# Altium integrated library Linear Technology Power Management System Supervisor, Monitor and Control.IntLib: 1611 symbols (part 9 of 100)
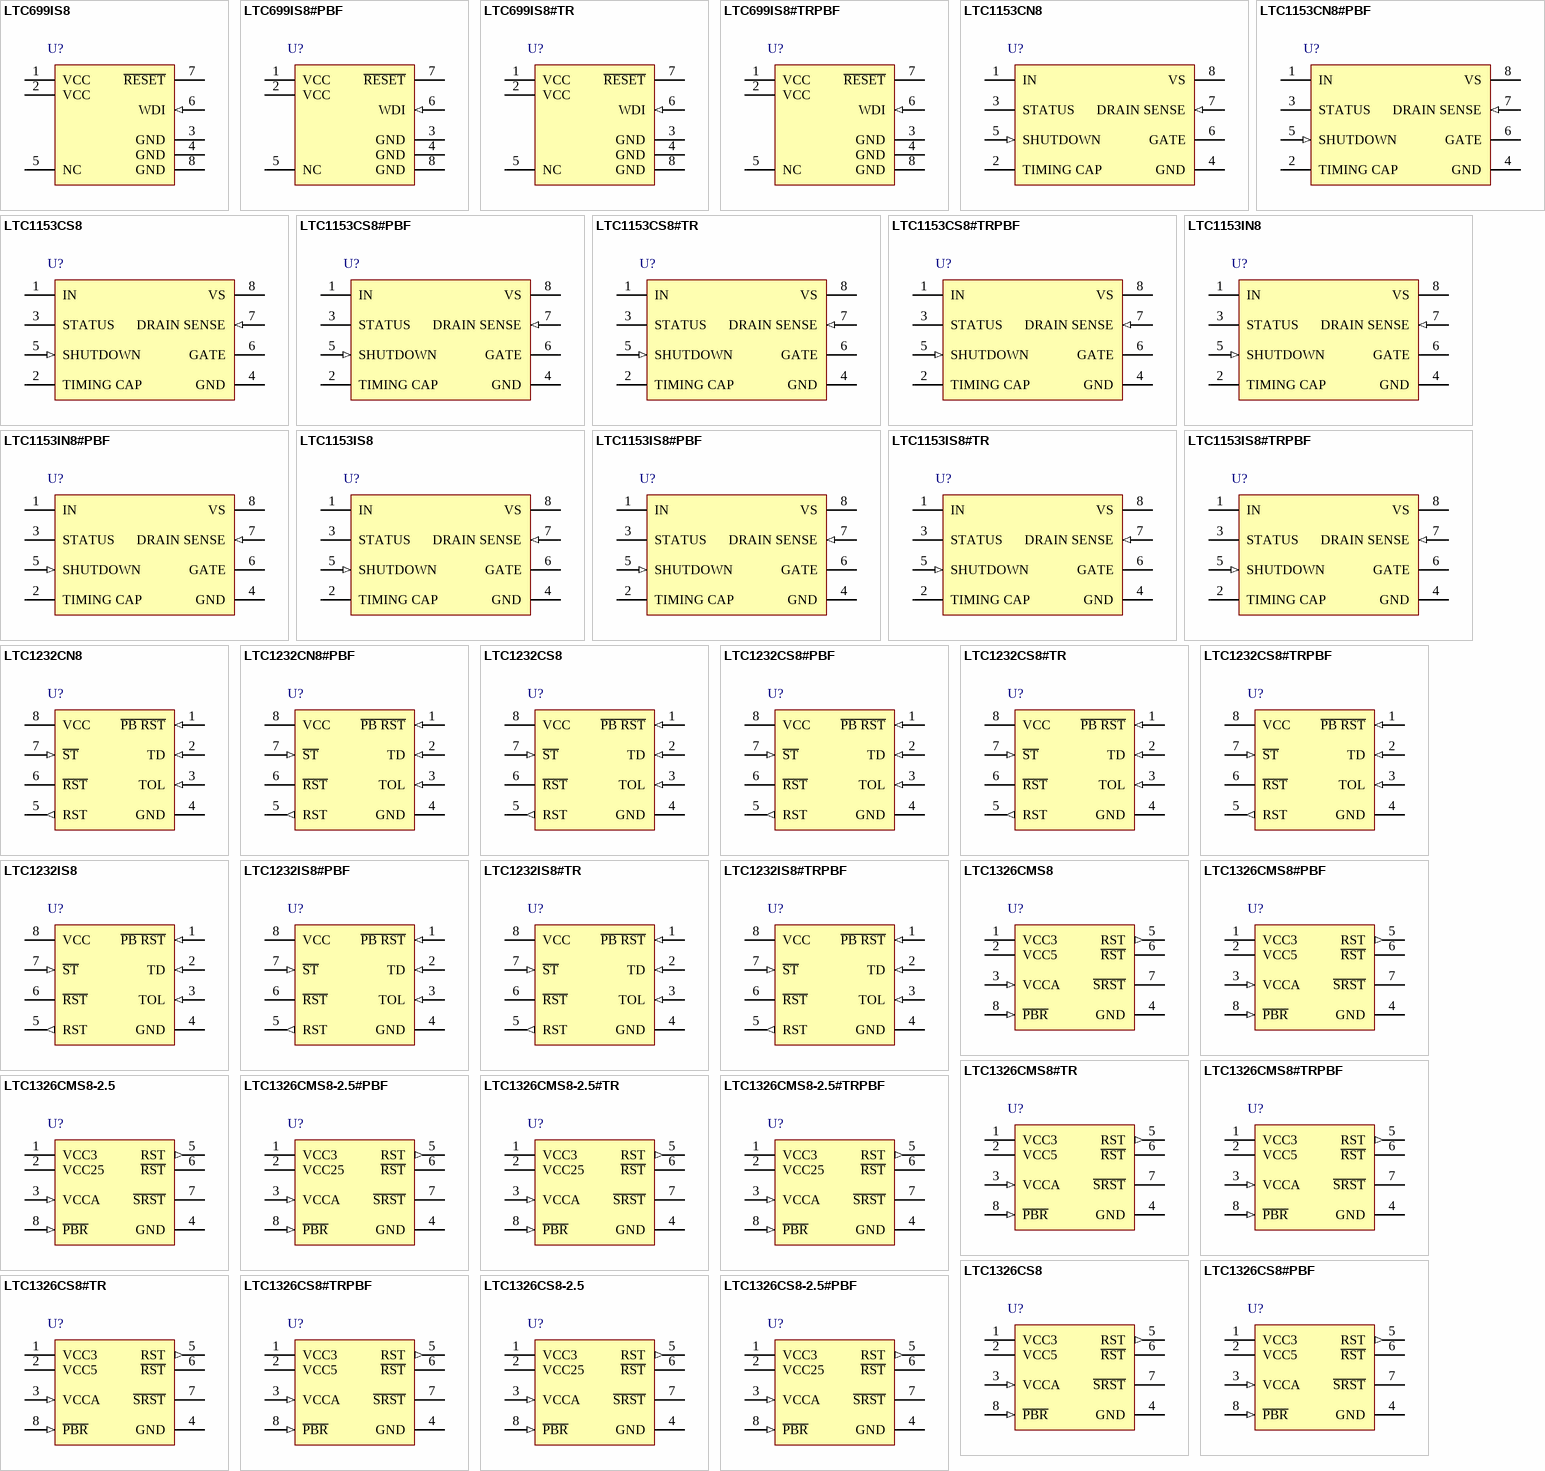
[diagram p53: symbols LTC699IS8 to LTC1326CS8-2.5#PBF]

## LTC1232IS8#TRPBF
designator U?
Push-Button Input, 8-pin SOIC (S8-8), -40 to 85 degC, Pb-Free, Tape and Reel; Manufacturer: Linear Technology; PartNumber: LTC1232IS8#TRPBF; Number of Supplies(#): 1; DatasheetVersion: Rev. A; PackageVersion: Rev. G, 03/2012; PackageReference: S8-8; PackageDescription: 8-Pin Plastic Small Outline (Narrow .150 Inch), Body 4.9 x 3.9 mm, Pitch 1.27 mm; Supplier 1: Digi-Key; Supplier Part Number 1: LTC1232IS8#TRPBF-ND; Supplier 2: Newark; Supplier Part Number 2: 55M9691; Packing: Tape and Reel; RoHS: TRUE; Mounting Technology: Surface Mount; ComponentLink1Description: Manufacturer URL; ComponentLink1URL: http://www.linear.com/; ComponentLink2Description: Datasheet; ComponentLink2URL: http://cds.linear.com/docs/en/datasheet/1232fas.pdf; ComponentLink3Description: Package Specification; ComponentLink3URL: http://cds.linear.com/docs/en/packaging/05081610_G_SO8.pdf
footprint LT-S8-8_N (SOIC, 8-Leads, Body 5x4mm, Pitch 1.27mm, IPC Medium Density)
footprint LT-S8-8_L (SOIC, 8-Leads, Body 5x4mm, Pitch 1.27mm, IPC High Density)
footprint LT-S8-8_M (SOIC, 8-Leads, Body 5x4mm, Pitch 1.27mm, IPC Low Density)
pins: 1 ~{PB RST} (in) "Logic Input to be Directly Connected to a Push- Button. The P\B\ \R\S\T\ input requires an active low signal which is debounced and timed for a minimum of 40ms. When this condition is satisfied, the reset pulse generator (See Datasheet)", 2 TD (in) "Time-Out Delay. TD is a three-level input to select three different time-out periods. The time-out period is set by the TD input to be 150ms with TD connected to GND, 600ms with TD left floating, and 1.2 seconds with TD (See Datasheet)", 3 TOL (in) "Input to Select 5% or 10% Variation on VCC. When TOL is connected to GND, the reset pulse generator forces the reset outputs to active states as VCC falls below 4.75V (4.62V typical). When TOL is connected to VCC, the reset (See Datasheet)", 4 GND (power) "Ground Pin.", 5 RST (out) "RST is an Active High Logic Output. It is the inverse of R\S\T\.", 6 ~{RST} (oc) "Open Drain Logic Output for uP Reset Control. The LTC1232 provides three ways to generate uP reset. First, when VCC falls below VCC trip point (4.75V with TOL = GND and 4.5V with TOL = VCC), R\S\T\ goes active low. After VCC (See Datasheet)", 7 ~{ST} (in) "Logic Input to Reset the Watchdog Timer. Driving S\T\ either high or low longer than the time-out period set by the TD input, forces the reset outputs to active states for a minimum of 250ms. The timer resets itself and (See Datasheet)", 8 VCC (power) "5V Supply Input. The VCC pin should be bypassed with a 0.1uF capacitor."

## LTC1326CMS8
designator U?
Micropower Precision Triple Supply Monitor, 8-pin SOP (MS8-8), 0 to 70 degC; Manufacturer: Linear Technology; PartNumber: LTC1326CMS8; Number of Supplies(#): 3; DatasheetVersion: Rev. C; PackageVersion: Rev. G, 03/2012; PackageReference: MS8-8; PackageDescription: 8-Pin Plastic MSOP, Body 3 x 3 mm, Pitch 0.65 mm; Supplier 1: Digi-Key; Supplier Part Number 1: LTC1326CMS8-ND; RoHS: FALSE; Mounting Technology: Surface Mount; ComponentLink1Description: Manufacturer URL; ComponentLink1URL: http://www.linear.com/; ComponentLink2Description: Datasheet; ComponentLink2URL: http://cds.linear.com/docs/en/datasheet/132625fc.pdf; ComponentLink3Description: Package Specification; ComponentLink3URL: http://cds.linear.com/docs/en/packaging/05081660_G_MS8.pdf
footprint LT-MS8-8_N (SOP, 8-Leads, Body 3.1x3.1mm, Pitch 0.65mm, IPC Medium Density)
footprint LT-MS8-8_L (SOP, 8-Leads, Body 3.1x3.1mm, Pitch 0.65mm, IPC High Density)
footprint LT-MS8-8_M (SOP, 8-Leads, Body 3.1x3.1mm, Pitch 0.65mm, IPC Low Density)
pins: 1 VCC3 (power), 2 VCC5 (power), 3 VCCA (in), 4 GND (power) "Ground.", 5 RST (out), 6 ~{RST} (oc), 7 ~{SRST} (oc), 8 ~{PBR} (in)

## LTC1326CMS8#PBF
designator U?
Micropower Precision Triple Supply Monitor, 8-pin SOP (MS8-8), 0 to 70 degC, Pb-Free; Manufacturer: Linear Technology; PartNumber: LTC1326CMS8#PBF; Number of Supplies(#): 3; DatasheetVersion: Rev. C; PackageVersion: Rev. G, 03/2012; PackageReference: MS8-8; PackageDescription: 8-Pin Plastic MSOP, Body 3 x 3 mm, Pitch 0.65 mm; Supplier 1: Digi-Key; Supplier Part Number 1: LTC1326CMS8#PBF-ND; Supplier 2: Farnell; Supplier Part Number 2: 2295382; Supplier 3: Newark; Supplier Part Number 3: 56M0292; RoHS: TRUE; Mounting Technology: Surface Mount; ComponentLink1Description: Manufacturer URL; ComponentLink1URL: http://www.linear.com/; ComponentLink2Description: Datasheet; ComponentLink2URL: http://cds.linear.com/docs/en/datasheet/132625fc.pdf; ComponentLink3Description: Package Specification; ComponentLink3URL: http://cds.linear.com/docs/en/packaging/05081660_G_MS8.pdf
footprint LT-MS8-8_N (SOP, 8-Leads, Body 3.1x3.1mm, Pitch 0.65mm, IPC Medium Density)
footprint LT-MS8-8_L (SOP, 8-Leads, Body 3.1x3.1mm, Pitch 0.65mm, IPC High Density)
footprint LT-MS8-8_M (SOP, 8-Leads, Body 3.1x3.1mm, Pitch 0.65mm, IPC Low Density)
pins: 1 VCC3 (power), 2 VCC5 (power), 3 VCCA (in), 4 GND (power) "Ground.", 5 RST (out), 6 ~{RST} (oc), 7 ~{SRST} (oc), 8 ~{PBR} (in)

## LTC1326CMS8#TR
designator U?
Micropower Precision Triple Supply Monitor, 8-pin SOP (MS8-8), 0 to 70 degC, Tape and Reel; Manufacturer: Linear Technology; PartNumber: LTC1326CMS8#TR; Number of Supplies(#): 3; DatasheetVersion: Rev. C; PackageVersion: Rev. G, 03/2012; PackageReference: MS8-8; PackageDescription: 8-Pin Plastic MSOP, Body 3 x 3 mm, Pitch 0.65 mm; Supplier 1: Digi-Key; Supplier Part Number 1: LTC1326CMS8#TR-ND; Packing: Tape and Reel; RoHS: FALSE; Mounting Technology: Surface Mount; ComponentLink1Description: Manufacturer URL; ComponentLink1URL: http://www.linear.com/; ComponentLink2Description: Datasheet; ComponentLink2URL: http://cds.linear.com/docs/en/datasheet/132625fc.pdf; ComponentLink3Description: Package Specification; ComponentLink3URL: http://cds.linear.com/docs/en/packaging/05081660_G_MS8.pdf
footprint LT-MS8-8_N (SOP, 8-Leads, Body 3.1x3.1mm, Pitch 0.65mm, IPC Medium Density)
footprint LT-MS8-8_L (SOP, 8-Leads, Body 3.1x3.1mm, Pitch 0.65mm, IPC High Density)
footprint LT-MS8-8_M (SOP, 8-Leads, Body 3.1x3.1mm, Pitch 0.65mm, IPC Low Density)
pins: 1 VCC3 (power), 2 VCC5 (power), 3 VCCA (in), 4 GND (power) "Ground.", 5 RST (out), 6 ~{RST} (oc), 7 ~{SRST} (oc), 8 ~{PBR} (in)

## LTC1326CMS8#TRPBF
designator U?
Micropower Precision Triple Supply Monitor, 8-pin SOP (MS8-8), 0 to 70 degC, Pb-Free, Tape and Reel; Manufacturer: Linear Technology; PartNumber: LTC1326CMS8#TRPBF; Number of Supplies(#): 3; DatasheetVersion: Rev. C; PackageVersion: Rev. G, 03/2012; PackageReference: MS8-8; PackageDescription: 8-Pin Plastic MSOP, Body 3 x 3 mm, Pitch 0.65 mm; Supplier 1: Digi-Key; Supplier Part Number 1: LTC1326CMS8#TRPBF-ND; Packing: Tape and Reel; RoHS: TRUE; Mounting Technology: Surface Mount; ComponentLink1Description: Manufacturer URL; ComponentLink1URL: http://www.linear.com/; ComponentLink2Description: Datasheet; ComponentLink2URL: http://cds.linear.com/docs/en/datasheet/132625fc.pdf; ComponentLink3Description: Package Specification; ComponentLink3URL: http://cds.linear.com/docs/en/packaging/05081660_G_MS8.pdf
footprint LT-MS8-8_N (SOP, 8-Leads, Body 3.1x3.1mm, Pitch 0.65mm, IPC Medium Density)
footprint LT-MS8-8_L (SOP, 8-Leads, Body 3.1x3.1mm, Pitch 0.65mm, IPC High Density)
footprint LT-MS8-8_M (SOP, 8-Leads, Body 3.1x3.1mm, Pitch 0.65mm, IPC Low Density)
pins: 1 VCC3 (power), 2 VCC5 (power), 3 VCCA (in), 4 GND (power) "Ground.", 5 RST (out), 6 ~{RST} (oc), 7 ~{SRST} (oc), 8 ~{PBR} (in)

## LTC1326CMS8-2.5
designator U?
Micropower Precision Triple Supply Monitor, 8-pin SOP (MS8-8), 0 to 70 degC; Manufacturer: Linear Technology; PartNumber: LTC1326CMS8-2.5; Number of Supplies(#): 3; DatasheetVersion: Rev. C; PackageVersion: Rev. G, 03/2012; PackageReference: MS8-8; PackageDescription: 8-Pin Plastic MSOP, Body 3 x 3 mm, Pitch 0.65 mm; Supplier 1: Digi-Key; Supplier Part Number 1: LTC1326CMS8-2.5-ND; Supplier 2: Newark; Supplier Part Number 2: 56M0288; RoHS: FALSE; Mounting Technology: Surface Mount; ComponentLink1Description: Manufacturer URL; ComponentLink1URL: http://www.linear.com/; ComponentLink2Description: Datasheet; ComponentLink2URL: http://cds.linear.com/docs/en/datasheet/132625fc.pdf; ComponentLink3Description: Package Specification; ComponentLink3URL: http://cds.linear.com/docs/en/packaging/05081660_G_MS8.pdf
footprint LT-MS8-8_N (SOP, 8-Leads, Body 3.1x3.1mm, Pitch 0.65mm, IPC Medium Density)
footprint LT-MS8-8_L (SOP, 8-Leads, Body 3.1x3.1mm, Pitch 0.65mm, IPC High Density)
footprint LT-MS8-8_M (SOP, 8-Leads, Body 3.1x3.1mm, Pitch 0.65mm, IPC Low Density)
pins: 1 VCC3 (power) "3.3V Sense Input and Power Supply Pin for the IC. Bypass to ground with >= 0.1uF ceramic capacitor.", 2 VCC25 (power), 3 VCCA (in) "1V Sense, High Impedance Input. Can be used as a logic input with a 1V threshold. If unused, it can be tied to either VCC3 or VCC25.", 4 GND (power) "Ground.", 5 RST (out) "Reset Logic Output. Active high CMOS logic output, drives high to VCC3, buffered complement of R\S\T\. An external pull-down on the R\S\T\ pin will drive this pin high.", 6 ~{RST} (oc) "Reset Logic Output. Active low, open-drain logic output with weak pull-up to VCC3. Can be pulled up greater than VCC3 when interfacing to 5V logic. Asserted when one or more of the supplies are below trip thresholds and held (See Datasheet)", 7 ~{SRST} (oc) "Soft Reset. Active low, open-drain logic output with weak pull-up to VCC3. Can be pulled up greater than VCC3 when interfacing to 5V logic. Asserted for 100us after P\B\R\ is held low for less than 2 seconds and released.", 8 ~{PBR} (in)

## LTC1326CMS8-2.5#PBF
designator U?
Micropower Precision Triple Supply Monitor, 8-pin SOP (MS8-8), 0 to 70 degC, Pb-Free; Manufacturer: Linear Technology; PartNumber: LTC1326CMS8-2.5#PBF; Number of Supplies(#): 3; DatasheetVersion: Rev. C; PackageVersion: Rev. G, 03/2012; PackageReference: MS8-8; PackageDescription: 8-Pin Plastic MSOP, Body 3 x 3 mm, Pitch 0.65 mm; Supplier 1: Digi-Key; Supplier Part Number 1: LTC1326CMS8-2.5#PBF-ND; Supplier 2: Farnell; Supplier Part Number 2: 1663609; Supplier 3: Newark; Supplier Part Number 3: 56M0289; RoHS: TRUE; Mounting Technology: Surface Mount; ComponentLink1Description: Manufacturer URL; ComponentLink1URL: http://www.linear.com/; ComponentLink2Description: Datasheet; ComponentLink2URL: http://cds.linear.com/docs/en/datasheet/132625fc.pdf; ComponentLink3Description: Package Specification; ComponentLink3URL: http://cds.linear.com/docs/en/packaging/05081660_G_MS8.pdf
footprint LT-MS8-8_N (SOP, 8-Leads, Body 3.1x3.1mm, Pitch 0.65mm, IPC Medium Density)
footprint LT-MS8-8_L (SOP, 8-Leads, Body 3.1x3.1mm, Pitch 0.65mm, IPC High Density)
footprint LT-MS8-8_M (SOP, 8-Leads, Body 3.1x3.1mm, Pitch 0.65mm, IPC Low Density)
pins: 1 VCC3 (power) "3.3V Sense Input and Power Supply Pin for the IC. Bypass to ground with >= 0.1uF ceramic capacitor.", 2 VCC25 (power), 3 VCCA (in) "1V Sense, High Impedance Input. Can be used as a logic input with a 1V threshold. If unused, it can be tied to either VCC3 or VCC25.", 4 GND (power) "Ground.", 5 RST (out) "Reset Logic Output. Active high CMOS logic output, drives high to VCC3, buffered complement of R\S\T\. An external pull-down on the R\S\T\ pin will drive this pin high.", 6 ~{RST} (oc) "Reset Logic Output. Active low, open-drain logic output with weak pull-up to VCC3. Can be pulled up greater than VCC3 when interfacing to 5V logic. Asserted when one or more of the supplies are below trip thresholds and held (See Datasheet)", 7 ~{SRST} (oc) "Soft Reset. Active low, open-drain logic output with weak pull-up to VCC3. Can be pulled up greater than VCC3 when interfacing to 5V logic. Asserted for 100us after P\B\R\ is held low for less than 2 seconds and released.", 8 ~{PBR} (in)

## LTC1326CMS8-2.5#TR
designator U?
Micropower Precision Triple Supply Monitor, 8-pin SOP (MS8-8), 0 to 70 degC, Tape and Reel; Manufacturer: Linear Technology; PartNumber: LTC1326CMS8-2.5#TR; Number of Supplies(#): 3; DatasheetVersion: Rev. C; PackageVersion: Rev. G, 03/2012; PackageReference: MS8-8; PackageDescription: 8-Pin Plastic MSOP, Body 3 x 3 mm, Pitch 0.65 mm; Supplier 1: Digi-Key; Supplier Part Number 1: LTC1326CMS8-2.5TR-ND; Packing: Tape and Reel; RoHS: FALSE; Mounting Technology: Surface Mount; ComponentLink1Description: Manufacturer URL; ComponentLink1URL: http://www.linear.com/; ComponentLink2Description: Datasheet; ComponentLink2URL: http://cds.linear.com/docs/en/datasheet/132625fc.pdf; ComponentLink3Description: Package Specification; ComponentLink3URL: http://cds.linear.com/docs/en/packaging/05081660_G_MS8.pdf
footprint LT-MS8-8_N (SOP, 8-Leads, Body 3.1x3.1mm, Pitch 0.65mm, IPC Medium Density)
footprint LT-MS8-8_L (SOP, 8-Leads, Body 3.1x3.1mm, Pitch 0.65mm, IPC High Density)
footprint LT-MS8-8_M (SOP, 8-Leads, Body 3.1x3.1mm, Pitch 0.65mm, IPC Low Density)
pins: 1 VCC3 (power) "3.3V Sense Input and Power Supply Pin for the IC. Bypass to ground with >= 0.1uF ceramic capacitor.", 2 VCC25 (power), 3 VCCA (in) "1V Sense, High Impedance Input. Can be used as a logic input with a 1V threshold. If unused, it can be tied to either VCC3 or VCC25.", 4 GND (power) "Ground.", 5 RST (out) "Reset Logic Output. Active high CMOS logic output, drives high to VCC3, buffered complement of R\S\T\. An external pull-down on the R\S\T\ pin will drive this pin high.", 6 ~{RST} (oc) "Reset Logic Output. Active low, open-drain logic output with weak pull-up to VCC3. Can be pulled up greater than VCC3 when interfacing to 5V logic. Asserted when one or more of the supplies are below trip thresholds and held (See Datasheet)", 7 ~{SRST} (oc) "Soft Reset. Active low, open-drain logic output with weak pull-up to VCC3. Can be pulled up greater than VCC3 when interfacing to 5V logic. Asserted for 100us after P\B\R\ is held low for less than 2 seconds and released.", 8 ~{PBR} (in)

## LTC1326CMS8-2.5#TRPBF
designator U?
Micropower Precision Triple Supply Monitor, 8-pin SOP (MS8-8), 0 to 70 degC, Pb-Free, Tape and Reel; Manufacturer: Linear Technology; PartNumber: LTC1326CMS8-2.5#TRPBF; Number of Supplies(#): 3; DatasheetVersion: Rev. C; PackageVersion: Rev. G, 03/2012; PackageReference: MS8-8; PackageDescription: 8-Pin Plastic MSOP, Body 3 x 3 mm, Pitch 0.65 mm; Supplier 1: Digi-Key; Supplier Part Number 1: LTC1326CMS8-2.5#TRPBF-ND; Supplier 2: Newark; Supplier Part Number 2: 56M0291; Packing: Tape and Reel; RoHS: TRUE; Mounting Technology: Surface Mount; ComponentLink1Description: Manufacturer URL; ComponentLink1URL: http://www.linear.com/; ComponentLink2Description: Datasheet; ComponentLink2URL: http://cds.linear.com/docs/en/datasheet/132625fc.pdf; ComponentLink3Description: Package Specification; ComponentLink3URL: http://cds.linear.com/docs/en/packaging/05081660_G_MS8.pdf
footprint LT-MS8-8_N (SOP, 8-Leads, Body 3.1x3.1mm, Pitch 0.65mm, IPC Medium Density)
footprint LT-MS8-8_L (SOP, 8-Leads, Body 3.1x3.1mm, Pitch 0.65mm, IPC High Density)
footprint LT-MS8-8_M (SOP, 8-Leads, Body 3.1x3.1mm, Pitch 0.65mm, IPC Low Density)
pins: 1 VCC3 (power) "3.3V Sense Input and Power Supply Pin for the IC. Bypass to ground with >= 0.1uF ceramic capacitor.", 2 VCC25 (power), 3 VCCA (in) "1V Sense, High Impedance Input. Can be used as a logic input with a 1V threshold. If unused, it can be tied to either VCC3 or VCC25.", 4 GND (power) "Ground.", 5 RST (out) "Reset Logic Output. Active high CMOS logic output, drives high to VCC3, buffered complement of R\S\T\. An external pull-down on the R\S\T\ pin will drive this pin high.", 6 ~{RST} (oc) "Reset Logic Output. Active low, open-drain logic output with weak pull-up to VCC3. Can be pulled up greater than VCC3 when interfacing to 5V logic. Asserted when one or more of the supplies are below trip thresholds and held (See Datasheet)", 7 ~{SRST} (oc) "Soft Reset. Active low, open-drain logic output with weak pull-up to VCC3. Can be pulled up greater than VCC3 when interfacing to 5V logic. Asserted for 100us after P\B\R\ is held low for less than 2 seconds and released.", 8 ~{PBR} (in)

## LTC1326CS8
designator U?
Micropower Precision Triple Supply Monitor, 8-pin SOIC (S8-8), 0 to 70 degC; Manufacturer: Linear Technology; PartNumber: LTC1326CS8; Number of Supplies(#): 3; DatasheetVersion: Rev. C; PackageVersion: Rev. G, 03/2012; PackageReference: S8-8; PackageDescription: 8-Pin Plastic Small Outline (Narrow .150 Inch), Body 4.9 x 3.9 mm, Pitch 1.27 mm; Supplier 1: Digi-Key; Supplier Part Number 1: LTC1326CS8-ND; Supplier 2: Newark; Supplier Part Number 2: 56M0295; RoHS: FALSE; Mounting Technology: Surface Mount; ComponentLink1Description: Manufacturer URL; ComponentLink1URL: http://www.linear.com/; ComponentLink2Description: Datasheet; ComponentLink2URL: http://cds.linear.com/docs/en/datasheet/132625fc.pdf; ComponentLink3Description: Package Specification; ComponentLink3URL: http://cds.linear.com/docs/en/packaging/05081610_G_SO8.pdf
footprint LT-S8-8_N (SOIC, 8-Leads, Body 5x4mm, Pitch 1.27mm, IPC Medium Density)
footprint LT-S8-8_L (SOIC, 8-Leads, Body 5x4mm, Pitch 1.27mm, IPC High Density)
footprint LT-S8-8_M (SOIC, 8-Leads, Body 5x4mm, Pitch 1.27mm, IPC Low Density)
pins: 1 VCC3 (power), 2 VCC5 (power), 3 VCCA (in), 4 GND (power) "Ground.", 5 RST (out), 6 ~{RST} (oc), 7 ~{SRST} (oc), 8 ~{PBR} (in)

## LTC1326CS8#PBF
designator U?
Micropower Precision Triple Supply Monitor, 8-pin SOIC (S8-8), 0 to 70 degC, Pb-Free; Manufacturer: Linear Technology; PartNumber: LTC1326CS8#PBF; Number of Supplies(#): 3; DatasheetVersion: Rev. C; PackageVersion: Rev. G, 03/2012; PackageReference: S8-8; PackageDescription: 8-Pin Plastic Small Outline (Narrow .150 Inch), Body 4.9 x 3.9 mm, Pitch 1.27 mm; Supplier 1: Digi-Key; Supplier Part Number 1: LTC1326CS8#PBF-ND; Supplier 2: Farnell; Supplier Part Number 2: 1273648; Supplier 3: Newark; Supplier Part Number 3: 56M0300; RoHS: TRUE; Mounting Technology: Surface Mount; ComponentLink1Description: Manufacturer URL; ComponentLink1URL: http://www.linear.com/; ComponentLink2Description: Datasheet; ComponentLink2URL: http://cds.linear.com/docs/en/datasheet/132625fc.pdf; ComponentLink3Description: Package Specification; ComponentLink3URL: http://cds.linear.com/docs/en/packaging/05081610_G_SO8.pdf
footprint LT-S8-8_N (SOIC, 8-Leads, Body 5x4mm, Pitch 1.27mm, IPC Medium Density)
footprint LT-S8-8_L (SOIC, 8-Leads, Body 5x4mm, Pitch 1.27mm, IPC High Density)
footprint LT-S8-8_M (SOIC, 8-Leads, Body 5x4mm, Pitch 1.27mm, IPC Low Density)
pins: 1 VCC3 (power), 2 VCC5 (power), 3 VCCA (in), 4 GND (power) "Ground.", 5 RST (out), 6 ~{RST} (oc), 7 ~{SRST} (oc), 8 ~{PBR} (in)

## LTC1326CS8#TR
designator U?
Micropower Precision Triple Supply Monitor, 8-pin SOIC (S8-8), 0 to 70 degC, Tape and Reel; Manufacturer: Linear Technology; PartNumber: LTC1326CS8#TR; Number of Supplies(#): 3; DatasheetVersion: Rev. C; PackageVersion: Rev. G, 03/2012; PackageReference: S8-8; PackageDescription: 8-Pin Plastic Small Outline (Narrow .150 Inch), Body 4.9 x 3.9 mm, Pitch 1.27 mm; Supplier 1: Digi-Key; Supplier Part Number 1: LTC1326CS8#TR-ND; Packing: Tape and Reel; RoHS: FALSE; Mounting Technology: Surface Mount; ComponentLink1Description: Manufacturer URL; ComponentLink1URL: http://www.linear.com/; ComponentLink2Description: Datasheet; ComponentLink2URL: http://cds.linear.com/docs/en/datasheet/132625fc.pdf; ComponentLink3Description: Package Specification; ComponentLink3URL: http://cds.linear.com/docs/en/packaging/05081610_G_SO8.pdf
footprint LT-S8-8_N (SOIC, 8-Leads, Body 5x4mm, Pitch 1.27mm, IPC Medium Density)
footprint LT-S8-8_L (SOIC, 8-Leads, Body 5x4mm, Pitch 1.27mm, IPC High Density)
footprint LT-S8-8_M (SOIC, 8-Leads, Body 5x4mm, Pitch 1.27mm, IPC Low Density)
pins: 1 VCC3 (power), 2 VCC5 (power), 3 VCCA (in), 4 GND (power) "Ground.", 5 RST (out), 6 ~{RST} (oc), 7 ~{SRST} (oc), 8 ~{PBR} (in)

## LTC1326CS8#TRPBF
designator U?
Micropower Precision Triple Supply Monitor, 8-pin SOIC (S8-8), 0 to 70 degC, Pb-Free, Tape and Reel; Manufacturer: Linear Technology; PartNumber: LTC1326CS8#TRPBF; Number of Supplies(#): 3; DatasheetVersion: Rev. C; PackageVersion: Rev. G, 03/2012; PackageReference: S8-8; PackageDescription: 8-Pin Plastic Small Outline (Narrow .150 Inch), Body 4.9 x 3.9 mm, Pitch 1.27 mm; Supplier 1: Digi-Key; Supplier Part Number 1: LTC1326CS8#TRPBF-ND; Supplier 2: Newark; Supplier Part Number 2: 56M0302; Packing: Tape and Reel; RoHS: TRUE; Mounting Technology: Surface Mount; ComponentLink1Description: Manufacturer URL; ComponentLink1URL: http://www.linear.com/; ComponentLink2Description: Datasheet; ComponentLink2URL: http://cds.linear.com/docs/en/datasheet/132625fc.pdf; ComponentLink3Description: Package Specification; ComponentLink3URL: http://cds.linear.com/docs/en/packaging/05081610_G_SO8.pdf
footprint LT-S8-8_N (SOIC, 8-Leads, Body 5x4mm, Pitch 1.27mm, IPC Medium Density)
footprint LT-S8-8_L (SOIC, 8-Leads, Body 5x4mm, Pitch 1.27mm, IPC High Density)
footprint LT-S8-8_M (SOIC, 8-Leads, Body 5x4mm, Pitch 1.27mm, IPC Low Density)
pins: 1 VCC3 (power), 2 VCC5 (power), 3 VCCA (in), 4 GND (power) "Ground.", 5 RST (out), 6 ~{RST} (oc), 7 ~{SRST} (oc), 8 ~{PBR} (in)

## LTC1326CS8-2.5
designator U?
Micropower Precision Triple Supply Monitor, 8-pin SOIC (S8-8), 0 to 70 degC; Manufacturer: Linear Technology; PartNumber: LTC1326CS8-2.5; Number of Supplies(#): 3; DatasheetVersion: Rev. C; PackageVersion: Rev. G, 03/2012; PackageReference: S8-8; PackageDescription: 8-Pin Plastic Small Outline (Narrow .150 Inch), Body 4.9 x 3.9 mm, Pitch 1.27 mm; Supplier 1: Digi-Key; Supplier Part Number 1: LTC1326CS8-2.5-ND; RoHS: FALSE; Mounting Technology: Surface Mount; ComponentLink1Description: Manufacturer URL; ComponentLink1URL: http://www.linear.com/; ComponentLink2Description: Datasheet; ComponentLink2URL: http://cds.linear.com/docs/en/datasheet/132625fc.pdf; ComponentLink3Description: Package Specification; ComponentLink3URL: http://cds.linear.com/docs/en/packaging/05081610_G_SO8.pdf
footprint LT-S8-8_N (SOIC, 8-Leads, Body 5x4mm, Pitch 1.27mm, IPC Medium Density)
footprint LT-S8-8_L (SOIC, 8-Leads, Body 5x4mm, Pitch 1.27mm, IPC High Density)
footprint LT-S8-8_M (SOIC, 8-Leads, Body 5x4mm, Pitch 1.27mm, IPC Low Density)
pins: 1 VCC3 (power) "3.3V Sense Input and Power Supply Pin for the IC. Bypass to ground with >= 0.1uF ceramic capacitor.", 2 VCC25 (power), 3 VCCA (in) "1V Sense, High Impedance Input. Can be used as a logic input with a 1V threshold. If unused, it can be tied to either VCC3 or VCC25.", 4 GND (power) "Ground.", 5 RST (out) "Reset Logic Output. Active high CMOS logic output, drives high to VCC3, buffered complement of R\S\T\. An external pull-down on the R\S\T\ pin will drive this pin high.", 6 ~{RST} (oc) "Reset Logic Output. Active low, open-drain logic output with weak pull-up to VCC3. Can be pulled up greater than VCC3 when interfacing to 5V logic. Asserted when one or more of the supplies are below trip thresholds and held (See Datasheet)", 7 ~{SRST} (oc) "Soft Reset. Active low, open-drain logic output with weak pull-up to VCC3. Can be pulled up greater than VCC3 when interfacing to 5V logic. Asserted for 100us after P\B\R\ is held low for less than 2 seconds and released.", 8 ~{PBR} (in)

## LTC1326CS8-2.5#PBF
designator U?
Micropower Precision Triple Supply Monitor, 8-pin SOIC (S8-8), 0 to 70 degC, Pb-Free; Manufacturer: Linear Technology; PartNumber: LTC1326CS8-2.5#PBF; Number of Supplies(#): 3; DatasheetVersion: Rev. C; PackageVersion: Rev. G, 03/2012; PackageReference: S8-8; PackageDescription: 8-Pin Plastic Small Outline (Narrow .150 Inch), Body 4.9 x 3.9 mm, Pitch 1.27 mm; Supplier 1: Digi-Key; Supplier Part Number 1: LTC1326CS8-2.5#PBF-ND; Supplier 2: Farnell; Supplier Part Number 2: 1273649; Supplier 3: Newark; Supplier Part Number 3: 56M0297; RoHS: TRUE; Mounting Technology: Surface Mount; ComponentLink1Description: Manufacturer URL; ComponentLink1URL: http://www.linear.com/; ComponentLink2Description: Datasheet; ComponentLink2URL: http://cds.linear.com/docs/en/datasheet/132625fc.pdf; ComponentLink3Description: Package Specification; ComponentLink3URL: http://cds.linear.com/docs/en/packaging/05081610_G_SO8.pdf
footprint LT-S8-8_N (SOIC, 8-Leads, Body 5x4mm, Pitch 1.27mm, IPC Medium Density)
footprint LT-S8-8_L (SOIC, 8-Leads, Body 5x4mm, Pitch 1.27mm, IPC High Density)
footprint LT-S8-8_M (SOIC, 8-Leads, Body 5x4mm, Pitch 1.27mm, IPC Low Density)
pins: 1 VCC3 (power) "3.3V Sense Input and Power Supply Pin for the IC. Bypass to ground with >= 0.1uF ceramic capacitor.", 2 VCC25 (power), 3 VCCA (in) "1V Sense, High Impedance Input. Can be used as a logic input with a 1V threshold. If unused, it can be tied to either VCC3 or VCC25.", 4 GND (power) "Ground.", 5 RST (out) "Reset Logic Output. Active high CMOS logic output, drives high to VCC3, buffered complement of R\S\T\. An external pull-down on the R\S\T\ pin will drive this pin high.", 6 ~{RST} (oc) "Reset Logic Output. Active low, open-drain logic output with weak pull-up to VCC3. Can be pulled up greater than VCC3 when interfacing to 5V logic. Asserted when one or more of the supplies are below trip thresholds and held (See Datasheet)", 7 ~{SRST} (oc) "Soft Reset. Active low, open-drain logic output with weak pull-up to VCC3. Can be pulled up greater than VCC3 when interfacing to 5V logic. Asserted for 100us after P\B\R\ is held low for less than 2 seconds and released.", 8 ~{PBR} (in)

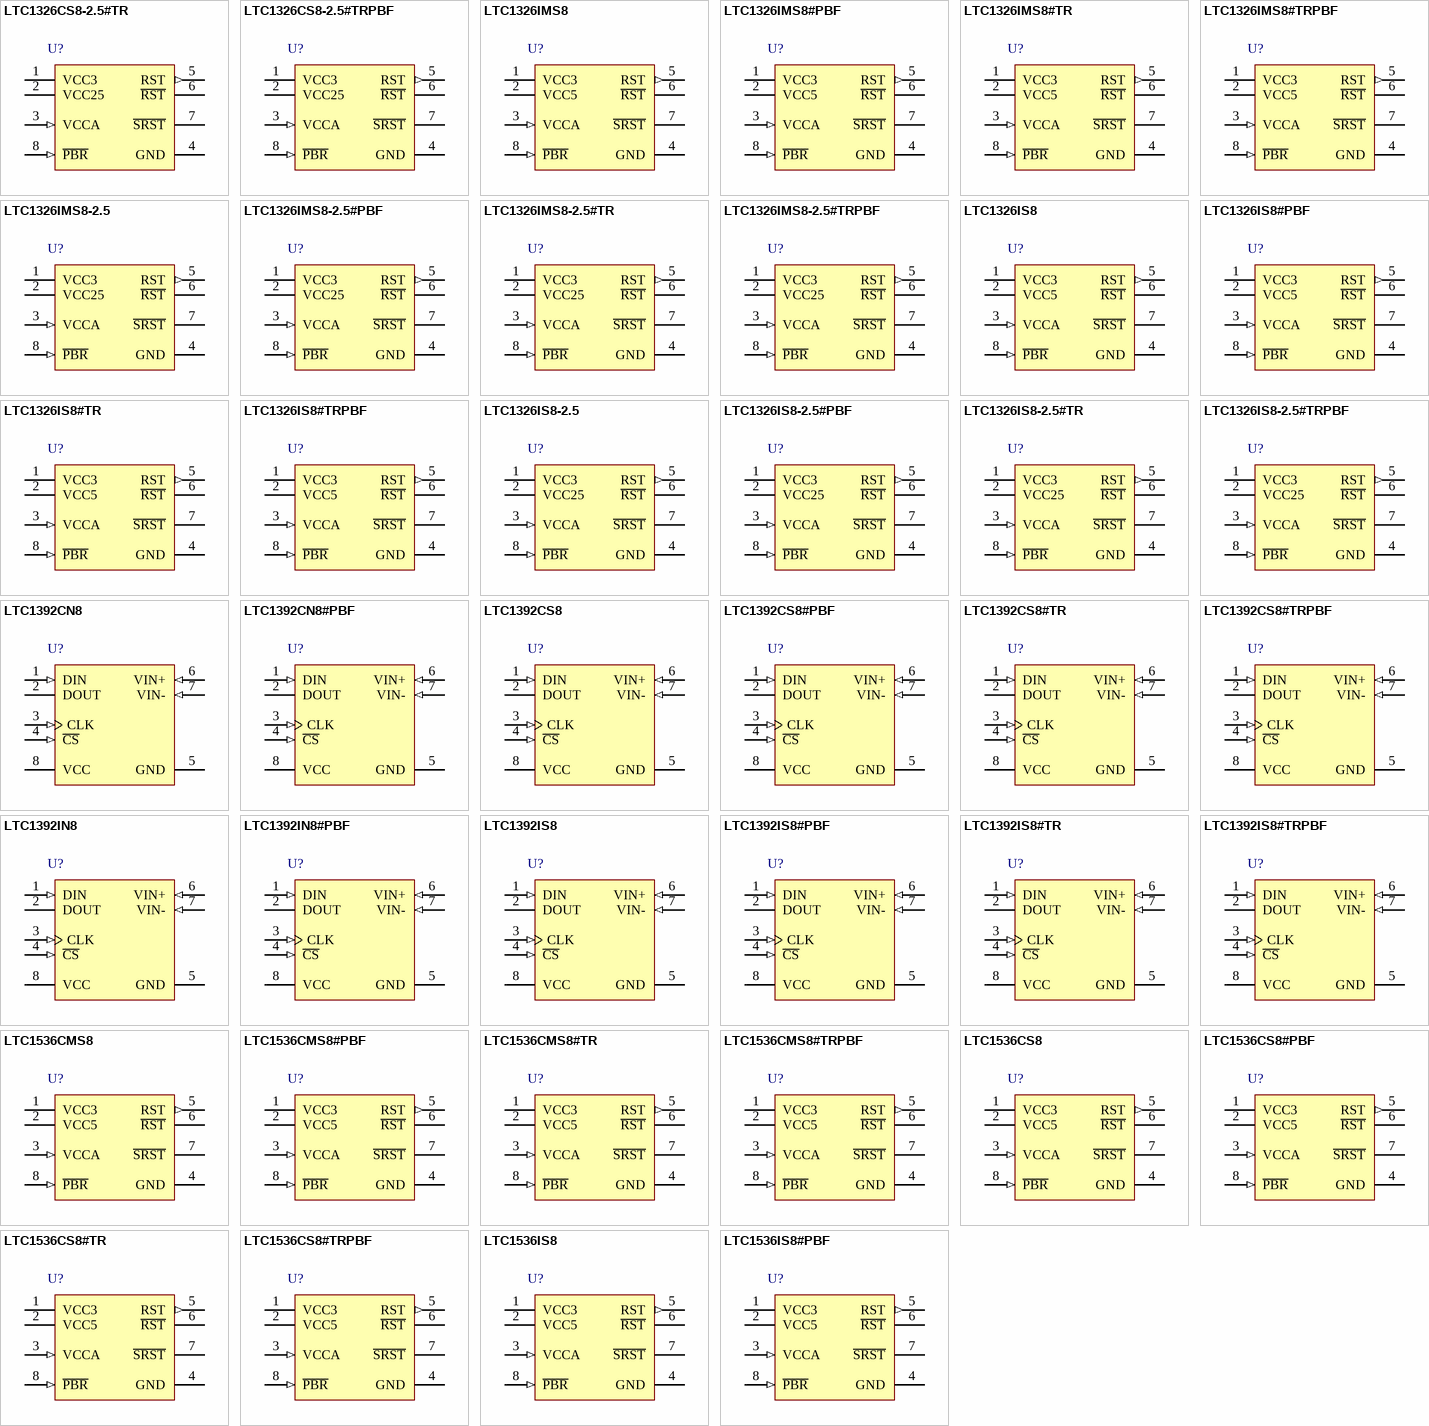
[diagram p5: symbols LTC1326CS8-2.5#TR to LTC1536IS8#PBF]

## LTC1326CS8-2.5#TR
designator U?
Micropower Precision Triple Supply Monitor, 8-pin SOIC (S8-8), 0 to 70 degC, Tape and Reel; Manufacturer: Linear Technology; PartNumber: LTC1326CS8-2.5#TR; Number of Supplies(#): 3; DatasheetVersion: Rev. C; PackageVersion: Rev. G, 03/2012; PackageReference: S8-8; PackageDescription: 8-Pin Plastic Small Outline (Narrow .150 Inch), Body 4.9 x 3.9 mm, Pitch 1.27 mm; Supplier 1: Digi-Key; Supplier Part Number 1: LTC1326CS8-2.5#TR-ND; Packing: Tape and Reel; RoHS: FALSE; Mounting Technology: Surface Mount; ComponentLink1Description: Manufacturer URL; ComponentLink1URL: http://www.linear.com/; ComponentLink2Description: Datasheet; ComponentLink2URL: http://cds.linear.com/docs/en/datasheet/132625fc.pdf; ComponentLink3Description: Package Specification; ComponentLink3URL: http://cds.linear.com/docs/en/packaging/05081610_G_SO8.pdf
footprint LT-S8-8_N (SOIC, 8-Leads, Body 5x4mm, Pitch 1.27mm, IPC Medium Density)
footprint LT-S8-8_L (SOIC, 8-Leads, Body 5x4mm, Pitch 1.27mm, IPC High Density)
footprint LT-S8-8_M (SOIC, 8-Leads, Body 5x4mm, Pitch 1.27mm, IPC Low Density)
pins: 1 VCC3 (power) "3.3V Sense Input and Power Supply Pin for the IC. Bypass to ground with >= 0.1uF ceramic capacitor.", 2 VCC25 (power), 3 VCCA (in) "1V Sense, High Impedance Input. Can be used as a logic input with a 1V threshold. If unused, it can be tied to either VCC3 or VCC25.", 4 GND (power) "Ground.", 5 RST (out) "Reset Logic Output. Active high CMOS logic output, drives high to VCC3, buffered complement of R\S\T\. An external pull-down on the R\S\T\ pin will drive this pin high.", 6 ~{RST} (oc) "Reset Logic Output. Active low, open-drain logic output with weak pull-up to VCC3. Can be pulled up greater than VCC3 when interfacing to 5V logic. Asserted when one or more of the supplies are below trip thresholds and held (See Datasheet)", 7 ~{SRST} (oc) "Soft Reset. Active low, open-drain logic output with weak pull-up to VCC3. Can be pulled up greater than VCC3 when interfacing to 5V logic. Asserted for 100us after P\B\R\ is held low for less than 2 seconds and released.", 8 ~{PBR} (in)

## LTC1326CS8-2.5#TRPBF
designator U?
Micropower Precision Triple Supply Monitor, 8-pin SOIC (S8-8), 0 to 70 degC, Pb-Free, Tape and Reel; Manufacturer: Linear Technology; PartNumber: LTC1326CS8-2.5#TRPBF; Number of Supplies(#): 3; DatasheetVersion: Rev. C; PackageVersion: Rev. G, 03/2012; PackageReference: S8-8; PackageDescription: 8-Pin Plastic Small Outline (Narrow .150 Inch), Body 4.9 x 3.9 mm, Pitch 1.27 mm; Supplier 1: Digi-Key; Supplier Part Number 1: LTC1326CS8-2.5#TRPBF-ND; Supplier 2: Newark; Supplier Part Number 2: 56M0299; Packing: Tape and Reel; RoHS: TRUE; Mounting Technology: Surface Mount; ComponentLink1Description: Manufacturer URL; ComponentLink1URL: http://www.linear.com/; ComponentLink2Description: Datasheet; ComponentLink2URL: http://cds.linear.com/docs/en/datasheet/132625fc.pdf; ComponentLink3Description: Package Specification; ComponentLink3URL: http://cds.linear.com/docs/en/packaging/05081610_G_SO8.pdf
footprint LT-S8-8_N (SOIC, 8-Leads, Body 5x4mm, Pitch 1.27mm, IPC Medium Density)
footprint LT-S8-8_L (SOIC, 8-Leads, Body 5x4mm, Pitch 1.27mm, IPC High Density)
footprint LT-S8-8_M (SOIC, 8-Leads, Body 5x4mm, Pitch 1.27mm, IPC Low Density)
pins: 1 VCC3 (power) "3.3V Sense Input and Power Supply Pin for the IC. Bypass to ground with >= 0.1uF ceramic capacitor.", 2 VCC25 (power), 3 VCCA (in) "1V Sense, High Impedance Input. Can be used as a logic input with a 1V threshold. If unused, it can be tied to either VCC3 or VCC25.", 4 GND (power) "Ground.", 5 RST (out) "Reset Logic Output. Active high CMOS logic output, drives high to VCC3, buffered complement of R\S\T\. An external pull-down on the R\S\T\ pin will drive this pin high.", 6 ~{RST} (oc) "Reset Logic Output. Active low, open-drain logic output with weak pull-up to VCC3. Can be pulled up greater than VCC3 when interfacing to 5V logic. Asserted when one or more of the supplies are below trip thresholds and held (See Datasheet)", 7 ~{SRST} (oc) "Soft Reset. Active low, open-drain logic output with weak pull-up to VCC3. Can be pulled up greater than VCC3 when interfacing to 5V logic. Asserted for 100us after P\B\R\ is held low for less than 2 seconds and released.", 8 ~{PBR} (in)

## LTC1326IMS8
designator U?
Micropower Precision Triple Supply Monitor, 8-pin SOP (MS8-8), -40 to 85 degC; Manufacturer: Linear Technology; PartNumber: LTC1326IMS8; Number of Supplies(#): 3; DatasheetVersion: Rev. C; PackageVersion: Rev. G, 03/2012; PackageReference: MS8-8; PackageDescription: 8-Pin Plastic MSOP, Body 3 x 3 mm, Pitch 0.65 mm; Supplier 1: Digi-Key; Supplier Part Number 1: LTC1326IMS8-ND; Supplier 2: Newark; Supplier Part Number 2: 56M0303; RoHS: FALSE; Mounting Technology: Surface Mount; ComponentLink1Description: Manufacturer URL; ComponentLink1URL: http://www.linear.com/; ComponentLink2Description: Datasheet; ComponentLink2URL: http://cds.linear.com/docs/en/datasheet/132625fc.pdf; ComponentLink3Description: Package Specification; ComponentLink3URL: http://cds.linear.com/docs/en/packaging/05081660_G_MS8.pdf
footprint LT-MS8-8_N (SOP, 8-Leads, Body 3.1x3.1mm, Pitch 0.65mm, IPC Medium Density)
footprint LT-MS8-8_L (SOP, 8-Leads, Body 3.1x3.1mm, Pitch 0.65mm, IPC High Density)
footprint LT-MS8-8_M (SOP, 8-Leads, Body 3.1x3.1mm, Pitch 0.65mm, IPC Low Density)
pins: 1 VCC3 (power), 2 VCC5 (power), 3 VCCA (in), 4 GND (power) "Ground.", 5 RST (out), 6 ~{RST} (oc), 7 ~{SRST} (oc), 8 ~{PBR} (in)

## LTC1326IMS8#PBF
designator U?
Micropower Precision Triple Supply Monitor, 8-pin SOP (MS8-8), -40 to 85 degC, Pb-Free; Manufacturer: Linear Technology; PartNumber: LTC1326IMS8#PBF; Number of Supplies(#): 3; DatasheetVersion: Rev. C; PackageVersion: Rev. G, 03/2012; PackageReference: MS8-8; PackageDescription: 8-Pin Plastic MSOP, Body 3 x 3 mm, Pitch 0.65 mm; Supplier 1: Digi-Key; Supplier Part Number 1: LTC1326IMS8#PBF-ND; Supplier 2: Farnell; Supplier Part Number 2: 2295383; RoHS: TRUE; Mounting Technology: Surface Mount; ComponentLink1Description: Manufacturer URL; ComponentLink1URL: http://www.linear.com/; ComponentLink2Description: Datasheet; ComponentLink2URL: http://cds.linear.com/docs/en/datasheet/132625fc.pdf; ComponentLink3Description: Package Specification; ComponentLink3URL: http://cds.linear.com/docs/en/packaging/05081660_G_MS8.pdf
footprint LT-MS8-8_N (SOP, 8-Leads, Body 3.1x3.1mm, Pitch 0.65mm, IPC Medium Density)
footprint LT-MS8-8_L (SOP, 8-Leads, Body 3.1x3.1mm, Pitch 0.65mm, IPC High Density)
footprint LT-MS8-8_M (SOP, 8-Leads, Body 3.1x3.1mm, Pitch 0.65mm, IPC Low Density)
pins: 1 VCC3 (power), 2 VCC5 (power), 3 VCCA (in), 4 GND (power) "Ground.", 5 RST (out), 6 ~{RST} (oc), 7 ~{SRST} (oc), 8 ~{PBR} (in)

## LTC1326IMS8#TR
designator U?
Micropower Precision Triple Supply Monitor, 8-pin SOP (MS8-8), -40 to 85 degC, Tape and Reel; Manufacturer: Linear Technology; PartNumber: LTC1326IMS8#TR; Number of Supplies(#): 3; DatasheetVersion: Rev. C; PackageVersion: Rev. G, 03/2012; PackageReference: MS8-8; PackageDescription: 8-Pin Plastic MSOP, Body 3 x 3 mm, Pitch 0.65 mm; Supplier 1: Digi-Key; Supplier Part Number 1: LTC1326IMS8#TR-ND; Packing: Tape and Reel; RoHS: FALSE; Mounting Technology: Surface Mount; ComponentLink1Description: Manufacturer URL; ComponentLink1URL: http://www.linear.com/; ComponentLink2Description: Datasheet; ComponentLink2URL: http://cds.linear.com/docs/en/datasheet/132625fc.pdf; ComponentLink3Description: Package Specification; ComponentLink3URL: http://cds.linear.com/docs/en/packaging/05081660_G_MS8.pdf
footprint LT-MS8-8_N (SOP, 8-Leads, Body 3.1x3.1mm, Pitch 0.65mm, IPC Medium Density)
footprint LT-MS8-8_L (SOP, 8-Leads, Body 3.1x3.1mm, Pitch 0.65mm, IPC High Density)
footprint LT-MS8-8_M (SOP, 8-Leads, Body 3.1x3.1mm, Pitch 0.65mm, IPC Low Density)
pins: 1 VCC3 (power), 2 VCC5 (power), 3 VCCA (in), 4 GND (power) "Ground.", 5 RST (out), 6 ~{RST} (oc), 7 ~{SRST} (oc), 8 ~{PBR} (in)

## LTC1326IMS8#TRPBF
designator U?
Micropower Precision Triple Supply Monitor, 8-pin SOP (MS8-8), -40 to 85 degC, Pb-Free, Tape and Reel; Manufacturer: Linear Technology; PartNumber: LTC1326IMS8#TRPBF; Number of Supplies(#): 3; DatasheetVersion: Rev. C; PackageVersion: Rev. G, 03/2012; PackageReference: MS8-8; PackageDescription: 8-Pin Plastic MSOP, Body 3 x 3 mm, Pitch 0.65 mm; Supplier 1: Digi-Key; Supplier Part Number 1: LTC1326IMS8#TRPBF-ND; Supplier 2: Newark; Supplier Part Number 2: 56M0310; Packing: Tape and Reel; RoHS: TRUE; Mounting Technology: Surface Mount; ComponentLink1Description: Manufacturer URL; ComponentLink1URL: http://www.linear.com/; ComponentLink2Description: Datasheet; ComponentLink2URL: http://cds.linear.com/docs/en/datasheet/132625fc.pdf; ComponentLink3Description: Package Specification; ComponentLink3URL: http://cds.linear.com/docs/en/packaging/05081660_G_MS8.pdf
footprint LT-MS8-8_N (SOP, 8-Leads, Body 3.1x3.1mm, Pitch 0.65mm, IPC Medium Density)
footprint LT-MS8-8_L (SOP, 8-Leads, Body 3.1x3.1mm, Pitch 0.65mm, IPC High Density)
footprint LT-MS8-8_M (SOP, 8-Leads, Body 3.1x3.1mm, Pitch 0.65mm, IPC Low Density)
pins: 1 VCC3 (power), 2 VCC5 (power), 3 VCCA (in), 4 GND (power) "Ground.", 5 RST (out), 6 ~{RST} (oc), 7 ~{SRST} (oc), 8 ~{PBR} (in)

## LTC1326IMS8-2.5
designator U?
Micropower Precision Triple Supply Monitor, 8-pin SOP (MS8-8), -40 to 85 degC; Manufacturer: Linear Technology; PartNumber: LTC1326IMS8-2.5; Number of Supplies(#): 3; DatasheetVersion: Rev. C; PackageVersion: Rev. G, 03/2012; PackageReference: MS8-8; PackageDescription: 8-Pin Plastic MSOP, Body 3 x 3 mm, Pitch 0.65 mm; Supplier 1: Digi-Key; Supplier Part Number 1: LTC1326IMS8-2.5-ND; Supplier 2: Newark; Supplier Part Number 2: 56M0304; RoHS: FALSE; Mounting Technology: Surface Mount; ComponentLink1Description: Manufacturer URL; ComponentLink1URL: http://www.linear.com/; ComponentLink2Description: Datasheet; ComponentLink2URL: http://cds.linear.com/docs/en/datasheet/132625fc.pdf; ComponentLink3Description: Package Specification; ComponentLink3URL: http://cds.linear.com/docs/en/packaging/05081660_G_MS8.pdf
footprint LT-MS8-8_N (SOP, 8-Leads, Body 3.1x3.1mm, Pitch 0.65mm, IPC Medium Density)
footprint LT-MS8-8_L (SOP, 8-Leads, Body 3.1x3.1mm, Pitch 0.65mm, IPC High Density)
footprint LT-MS8-8_M (SOP, 8-Leads, Body 3.1x3.1mm, Pitch 0.65mm, IPC Low Density)
pins: 1 VCC3 (power) "3.3V Sense Input and Power Supply Pin for the IC. Bypass to ground with >= 0.1uF ceramic capacitor.", 2 VCC25 (power), 3 VCCA (in) "1V Sense, High Impedance Input. Can be used as a logic input with a 1V threshold. If unused, it can be tied to either VCC3 or VCC25.", 4 GND (power) "Ground.", 5 RST (out) "Reset Logic Output. Active high CMOS logic output, drives high to VCC3, buffered complement of R\S\T\. An external pull-down on the R\S\T\ pin will drive this pin high.", 6 ~{RST} (oc) "Reset Logic Output. Active low, open-drain logic output with weak pull-up to VCC3. Can be pulled up greater than VCC3 when interfacing to 5V logic. Asserted when one or more of the supplies are below trip thresholds and held (See Datasheet)", 7 ~{SRST} (oc) "Soft Reset. Active low, open-drain logic output with weak pull-up to VCC3. Can be pulled up greater than VCC3 when interfacing to 5V logic. Asserted for 100us after P\B\R\ is held low for less than 2 seconds and released.", 8 ~{PBR} (in)

## LTC1326IMS8-2.5#PBF
designator U?
Micropower Precision Triple Supply Monitor, 8-pin SOP (MS8-8), -40 to 85 degC, Pb-Free; Manufacturer: Linear Technology; PartNumber: LTC1326IMS8-2.5#PBF; Number of Supplies(#): 3; DatasheetVersion: Rev. C; PackageVersion: Rev. G, 03/2012; PackageReference: MS8-8; PackageDescription: 8-Pin Plastic MSOP, Body 3 x 3 mm, Pitch 0.65 mm; Supplier 1: Digi-Key; Supplier Part Number 1: LTC1326IMS8-2.5#PBF-ND; Supplier 2: Newark; Supplier Part Number 2: 56M0305; RoHS: TRUE; Mounting Technology: Surface Mount; ComponentLink1Description: Manufacturer URL; ComponentLink1URL: http://www.linear.com/; ComponentLink2Description: Datasheet; ComponentLink2URL: http://cds.linear.com/docs/en/datasheet/132625fc.pdf; ComponentLink3Description: Package Specification; ComponentLink3URL: http://cds.linear.com/docs/en/packaging/05081660_G_MS8.pdf
footprint LT-MS8-8_N (SOP, 8-Leads, Body 3.1x3.1mm, Pitch 0.65mm, IPC Medium Density)
footprint LT-MS8-8_L (SOP, 8-Leads, Body 3.1x3.1mm, Pitch 0.65mm, IPC High Density)
footprint LT-MS8-8_M (SOP, 8-Leads, Body 3.1x3.1mm, Pitch 0.65mm, IPC Low Density)
pins: 1 VCC3 (power) "3.3V Sense Input and Power Supply Pin for the IC. Bypass to ground with >= 0.1uF ceramic capacitor.", 2 VCC25 (power), 3 VCCA (in) "1V Sense, High Impedance Input. Can be used as a logic input with a 1V threshold. If unused, it can be tied to either VCC3 or VCC25.", 4 GND (power) "Ground.", 5 RST (out) "Reset Logic Output. Active high CMOS logic output, drives high to VCC3, buffered complement of R\S\T\. An external pull-down on the R\S\T\ pin will drive this pin high.", 6 ~{RST} (oc) "Reset Logic Output. Active low, open-drain logic output with weak pull-up to VCC3. Can be pulled up greater than VCC3 when interfacing to 5V logic. Asserted when one or more of the supplies are below trip thresholds and held (See Datasheet)", 7 ~{SRST} (oc) "Soft Reset. Active low, open-drain logic output with weak pull-up to VCC3. Can be pulled up greater than VCC3 when interfacing to 5V logic. Asserted for 100us after P\B\R\ is held low for less than 2 seconds and released.", 8 ~{PBR} (in)

## LTC1326IMS8-2.5#TR
designator U?
Micropower Precision Triple Supply Monitor, 8-pin SOP (MS8-8), -40 to 85 degC, Tape and Reel; Manufacturer: Linear Technology; PartNumber: LTC1326IMS8-2.5#TR; Number of Supplies(#): 3; DatasheetVersion: Rev. C; PackageVersion: Rev. G, 03/2012; PackageReference: MS8-8; PackageDescription: 8-Pin Plastic MSOP, Body 3 x 3 mm, Pitch 0.65 mm; Supplier 1: Digi-Key; Supplier Part Number 1: LTC1326IMS8-2.5TR-ND; Packing: Tape and Reel; RoHS: FALSE; Mounting Technology: Surface Mount; ComponentLink1Description: Manufacturer URL; ComponentLink1URL: http://www.linear.com/; ComponentLink2Description: Datasheet; ComponentLink2URL: http://cds.linear.com/docs/en/datasheet/132625fc.pdf; ComponentLink3Description: Package Specification; ComponentLink3URL: http://cds.linear.com/docs/en/packaging/05081660_G_MS8.pdf
footprint LT-MS8-8_N (SOP, 8-Leads, Body 3.1x3.1mm, Pitch 0.65mm, IPC Medium Density)
footprint LT-MS8-8_L (SOP, 8-Leads, Body 3.1x3.1mm, Pitch 0.65mm, IPC High Density)
footprint LT-MS8-8_M (SOP, 8-Leads, Body 3.1x3.1mm, Pitch 0.65mm, IPC Low Density)
pins: 1 VCC3 (power) "3.3V Sense Input and Power Supply Pin for the IC. Bypass to ground with >= 0.1uF ceramic capacitor.", 2 VCC25 (power), 3 VCCA (in) "1V Sense, High Impedance Input. Can be used as a logic input with a 1V threshold. If unused, it can be tied to either VCC3 or VCC25.", 4 GND (power) "Ground.", 5 RST (out) "Reset Logic Output. Active high CMOS logic output, drives high to VCC3, buffered complement of R\S\T\. An external pull-down on the R\S\T\ pin will drive this pin high.", 6 ~{RST} (oc) "Reset Logic Output. Active low, open-drain logic output with weak pull-up to VCC3. Can be pulled up greater than VCC3 when interfacing to 5V logic. Asserted when one or more of the supplies are below trip thresholds and held (See Datasheet)", 7 ~{SRST} (oc) "Soft Reset. Active low, open-drain logic output with weak pull-up to VCC3. Can be pulled up greater than VCC3 when interfacing to 5V logic. Asserted for 100us after P\B\R\ is held low for less than 2 seconds and released.", 8 ~{PBR} (in)

## LTC1326IMS8-2.5#TRPBF
designator U?
Micropower Precision Triple Supply Monitor, 8-pin SOP (MS8-8), -40 to 85 degC, Pb-Free, Tape and Reel; Manufacturer: Linear Technology; PartNumber: LTC1326IMS8-2.5#TRPBF; Number of Supplies(#): 3; DatasheetVersion: Rev. C; PackageVersion: Rev. G, 03/2012; PackageReference: MS8-8; PackageDescription: 8-Pin Plastic MSOP, Body 3 x 3 mm, Pitch 0.65 mm; Supplier 1: Digi-Key; Supplier Part Number 1: LTC1326IMS8-2.5#TRPBF-ND; Supplier 2: Newark; Supplier Part Number 2: 56M0307; Packing: Tape and Reel; RoHS: TRUE; Mounting Technology: Surface Mount; ComponentLink1Description: Manufacturer URL; ComponentLink1URL: http://www.linear.com/; ComponentLink2Description: Datasheet; ComponentLink2URL: http://cds.linear.com/docs/en/datasheet/132625fc.pdf; ComponentLink3Description: Package Specification; ComponentLink3URL: http://cds.linear.com/docs/en/packaging/05081660_G_MS8.pdf
footprint LT-MS8-8_N (SOP, 8-Leads, Body 3.1x3.1mm, Pitch 0.65mm, IPC Medium Density)
footprint LT-MS8-8_L (SOP, 8-Leads, Body 3.1x3.1mm, Pitch 0.65mm, IPC High Density)
footprint LT-MS8-8_M (SOP, 8-Leads, Body 3.1x3.1mm, Pitch 0.65mm, IPC Low Density)
pins: 1 VCC3 (power) "3.3V Sense Input and Power Supply Pin for the IC. Bypass to ground with >= 0.1uF ceramic capacitor.", 2 VCC25 (power), 3 VCCA (in) "1V Sense, High Impedance Input. Can be used as a logic input with a 1V threshold. If unused, it can be tied to either VCC3 or VCC25.", 4 GND (power) "Ground.", 5 RST (out) "Reset Logic Output. Active high CMOS logic output, drives high to VCC3, buffered complement of R\S\T\. An external pull-down on the R\S\T\ pin will drive this pin high.", 6 ~{RST} (oc) "Reset Logic Output. Active low, open-drain logic output with weak pull-up to VCC3. Can be pulled up greater than VCC3 when interfacing to 5V logic. Asserted when one or more of the supplies are below trip thresholds and held (See Datasheet)", 7 ~{SRST} (oc) "Soft Reset. Active low, open-drain logic output with weak pull-up to VCC3. Can be pulled up greater than VCC3 when interfacing to 5V logic. Asserted for 100us after P\B\R\ is held low for less than 2 seconds and released.", 8 ~{PBR} (in)

## LTC1326IS8
designator U?
Micropower Precision Triple Supply Monitor, 8-pin SOIC (S8-8), -40 to 85 degC; Manufacturer: Linear Technology; PartNumber: LTC1326IS8; Number of Supplies(#): 3; DatasheetVersion: Rev. C; PackageVersion: Rev. G, 03/2012; PackageReference: S8-8; PackageDescription: 8-Pin Plastic Small Outline (Narrow .150 Inch), Body 4.9 x 3.9 mm, Pitch 1.27 mm; Supplier 1: Digi-Key; Supplier Part Number 1: LTC1326IS8-ND; Supplier 2: Newark; Supplier Part Number 2: 56M0311; RoHS: FALSE; Mounting Technology: Surface Mount; ComponentLink1Description: Manufacturer URL; ComponentLink1URL: http://www.linear.com/; ComponentLink2Description: Datasheet; ComponentLink2URL: http://cds.linear.com/docs/en/datasheet/132625fc.pdf; ComponentLink3Description: Package Specification; ComponentLink3URL: http://cds.linear.com/docs/en/packaging/05081610_G_SO8.pdf
footprint LT-S8-8_N (SOIC, 8-Leads, Body 5x4mm, Pitch 1.27mm, IPC Medium Density)
footprint LT-S8-8_L (SOIC, 8-Leads, Body 5x4mm, Pitch 1.27mm, IPC High Density)
footprint LT-S8-8_M (SOIC, 8-Leads, Body 5x4mm, Pitch 1.27mm, IPC Low Density)
pins: 1 VCC3 (power), 2 VCC5 (power), 3 VCCA (in), 4 GND (power) "Ground.", 5 RST (out), 6 ~{RST} (oc), 7 ~{SRST} (oc), 8 ~{PBR} (in)

## LTC1326IS8#PBF
designator U?
Micropower Precision Triple Supply Monitor, 8-pin SOIC (S8-8), -40 to 85 degC, Pb-Free; Manufacturer: Linear Technology; PartNumber: LTC1326IS8#PBF; Number of Supplies(#): 3; DatasheetVersion: Rev. C; PackageVersion: Rev. G, 03/2012; PackageReference: S8-8; PackageDescription: 8-Pin Plastic Small Outline (Narrow .150 Inch), Body 4.9 x 3.9 mm, Pitch 1.27 mm; Supplier 1: Digi-Key; Supplier Part Number 1: LTC1326IS8#PBF-ND; Supplier 2: Farnell; Supplier Part Number 2: 2295384; Supplier 3: Newark; Supplier Part Number 3: 56M0316; RoHS: TRUE; Mounting Technology: Surface Mount; ComponentLink1Description: Manufacturer URL; ComponentLink1URL: http://www.linear.com/; ComponentLink2Description: Datasheet; ComponentLink2URL: http://cds.linear.com/docs/en/datasheet/132625fc.pdf; ComponentLink3Description: Package Specification; ComponentLink3URL: http://cds.linear.com/docs/en/packaging/05081610_G_SO8.pdf
footprint LT-S8-8_N (SOIC, 8-Leads, Body 5x4mm, Pitch 1.27mm, IPC Medium Density)
footprint LT-S8-8_L (SOIC, 8-Leads, Body 5x4mm, Pitch 1.27mm, IPC High Density)
footprint LT-S8-8_M (SOIC, 8-Leads, Body 5x4mm, Pitch 1.27mm, IPC Low Density)
pins: 1 VCC3 (power), 2 VCC5 (power), 3 VCCA (in), 4 GND (power) "Ground.", 5 RST (out), 6 ~{RST} (oc), 7 ~{SRST} (oc), 8 ~{PBR} (in)

## LTC1326IS8#TR
designator U?
Micropower Precision Triple Supply Monitor, 8-pin SOIC (S8-8), -40 to 85 degC, Tape and Reel; Manufacturer: Linear Technology; PartNumber: LTC1326IS8#TR; Number of Supplies(#): 3; DatasheetVersion: Rev. C; PackageVersion: Rev. G, 03/2012; PackageReference: S8-8; PackageDescription: 8-Pin Plastic Small Outline (Narrow .150 Inch), Body 4.9 x 3.9 mm, Pitch 1.27 mm; Supplier 1: Digi-Key; Supplier Part Number 1: LTC1326IS8#TR-ND; Supplier 2: Newark; Supplier Part Number 2: 56M0317; Packing: Tape and Reel; RoHS: FALSE; Mounting Technology: Surface Mount; ComponentLink1Description: Manufacturer URL; ComponentLink1URL: http://www.linear.com/; ComponentLink2Description: Datasheet; ComponentLink2URL: http://cds.linear.com/docs/en/datasheet/132625fc.pdf; ComponentLink3Description: Package Specification; ComponentLink3URL: http://cds.linear.com/docs/en/packaging/05081610_G_SO8.pdf
footprint LT-S8-8_N (SOIC, 8-Leads, Body 5x4mm, Pitch 1.27mm, IPC Medium Density)
footprint LT-S8-8_L (SOIC, 8-Leads, Body 5x4mm, Pitch 1.27mm, IPC High Density)
footprint LT-S8-8_M (SOIC, 8-Leads, Body 5x4mm, Pitch 1.27mm, IPC Low Density)
pins: 1 VCC3 (power), 2 VCC5 (power), 3 VCCA (in), 4 GND (power) "Ground.", 5 RST (out), 6 ~{RST} (oc), 7 ~{SRST} (oc), 8 ~{PBR} (in)

## LTC1326IS8#TRPBF
designator U?
Micropower Precision Triple Supply Monitor, 8-pin SOIC (S8-8), -40 to 85 degC, Pb-Free, Tape and Reel; Manufacturer: Linear Technology; PartNumber: LTC1326IS8#TRPBF; Number of Supplies(#): 3; DatasheetVersion: Rev. C; PackageVersion: Rev. G, 03/2012; PackageReference: S8-8; PackageDescription: 8-Pin Plastic Small Outline (Narrow .150 Inch), Body 4.9 x 3.9 mm, Pitch 1.27 mm; Supplier 1: Digi-Key; Supplier Part Number 1: LTC1326IS8#TRPBF-ND; Supplier 2: Newark; Supplier Part Number 2: 56M0318; Packing: Tape and Reel; RoHS: TRUE; Mounting Technology: Surface Mount; ComponentLink1Description: Manufacturer URL; ComponentLink1URL: http://www.linear.com/; ComponentLink2Description: Datasheet; ComponentLink2URL: http://cds.linear.com/docs/en/datasheet/132625fc.pdf; ComponentLink3Description: Package Specification; ComponentLink3URL: http://cds.linear.com/docs/en/packaging/05081610_G_SO8.pdf
footprint LT-S8-8_N (SOIC, 8-Leads, Body 5x4mm, Pitch 1.27mm, IPC Medium Density)
footprint LT-S8-8_L (SOIC, 8-Leads, Body 5x4mm, Pitch 1.27mm, IPC High Density)
footprint LT-S8-8_M (SOIC, 8-Leads, Body 5x4mm, Pitch 1.27mm, IPC Low Density)
pins: 1 VCC3 (power), 2 VCC5 (power), 3 VCCA (in), 4 GND (power) "Ground.", 5 RST (out), 6 ~{RST} (oc), 7 ~{SRST} (oc), 8 ~{PBR} (in)